# Altium integrated library WarShip_ExtraBoard.IntLib: 22 symbols
Pins are listed as number, name and electrical type; pins without a type are passive.

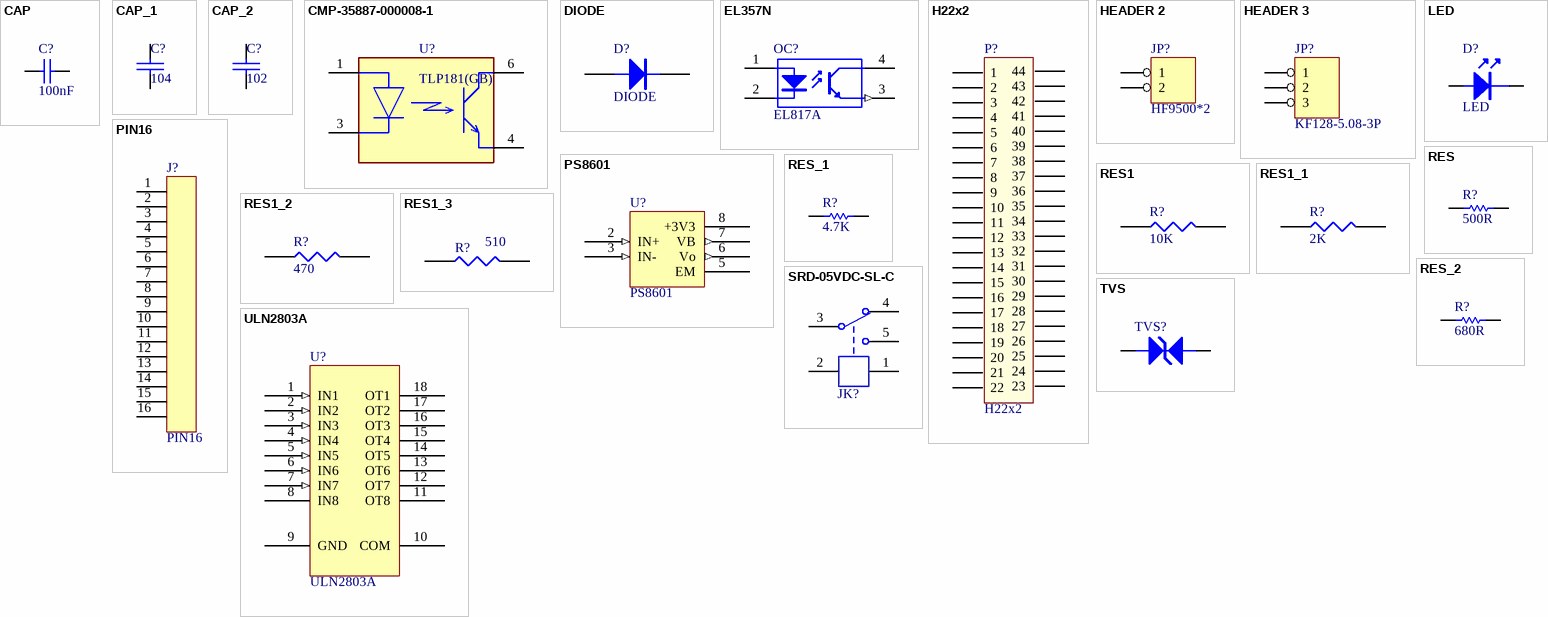
[diagram p0: symbols CAP to ULN2803A]

## CAP
designator C?, comment 100nF
Capacitor; Value: 104; Published: 8-Jun-2000; LatestRevisionDate: 17-Jul-2002; LatestRevisionNote: Re-released for DXP Platform.; PackageReference: RAD-0.3; Publisher: Altium Limited
footprint 0603C
pins: 1, 2

## CAP_1
designator C?, comment 104
Capacitor
footprint 0603
pins: 1, 2

## CAP_2
designator C?, comment 102
Capacitor
footprint 0603
pins: 1, 2

## CMP-35887-000008-1
designator U?, comment TLP181(GB)
OPTOCOUPLER TRANS 3.75KVRMS 6SO; Manufacturer: Toshiba; Collector Emitter Voltage: 80V; Min Current Transfer Ratio: 100%; Max Junction Temp: +125°C; Power Dissipation: 200mW; Max Current Transfer Ratio: 600%; Max Supply Voltage: 48V; Forward Voltage: 1.15V; Turn On Delay Time: 3us; Isolation Voltage: 3750Vrms; Reverse Voltage: 5V; Forward Current: 10mA; Emiiter Collector Voltage: 7V; Standoff Height: 0.1mm; Footprint Url: https://toshiba.semicon-storage.com/eu/design-support/package/detail.4pin%20MFSOP6.html; Device Class L3: unset; ComponentLink2Description: Datasheet; Device Class L1: Optoelectronics; Temperature: -55°C to +110°C; Temperature Range High: +110°C; Automotive: No; Octopart: https://octopart.com/tlp181gb-toshiba-8180795; ComponentLink2URL: https://toshiba.semicon-storage.com/info/docget.jsp?did=16749&prodName=TLP181; Category: Trans; Package: 11-4C1; Turn Off Delay Time: 3us; Temperature Range Low: -55°C; Device Class L2: Optocouplers; RoHS: TRUE; Lead Free: Yes; Ipc Land Pattern Name: SOP254P700X260-4; Manufacturer Part Number: TLP181(GB); Height: 2.8mm
footprint FP-11-4C1-MFG
footprint FP-11-4C1-IPC_A
footprint FP-11-4C1-IPC_C
footprint FP-11-4C1-IPC_B
pins: 1 A, 3 C, 4 E, 6 C

## DIODE
designator D?
footprint SOD-123
pins: 1 A, 2 K

## EL357N
designator OC?, comment EL817A
线性光耦
footprint SMD_PC817
pins: 1 A "Anode", 2 K "Cathode", 3 E (out) "Emitter", 4 C "Collector"

## H22x2
designator P?
footprint H2.54-2X22
footprint H2.54-2X22
footprint H2.54-2X22
footprint H2.54-2X22
footprint HDR2.54-F-44P
pins: 1, 2, 3, 4, 5, 6, 7, 8, 9, 10, 11, 12, 13, 14, 15, 16, 17, 18, 19, 20, 21, 22, 23, 24, 25, 26, 27, 28, 29, 30, 31, 32, 33, 34, 35, 36, 37, 38, 39, 40, 41, 42, 43, 44

## HEADER 2
designator JP?, comment HF9500*2
footprint KF128-5.08-2P (螺钉式接线端子，脚距5.08mm)
pins: 1, 2

## HEADER 3
designator JP?, comment KF128-5.08-3P
footprint KF128-5.08-3P (螺钉式接线端子，脚距5.08mm)
pins: 1, 2, 3

## LED
designator D?
LED 发光二极管
footprint LED-0603G
pins: 1 A, 2 K

## PIN16
designator J?
footprint KF128-5.08-16P
pins: 1, 2, 3, 4, 5, 6, 7, 8, 9, 10, 11, 12, 13, 14, 15, 16

## PS8601
designator U?
High speed optocoupler
footprint DIP8_8601
footprint SMD-8
footprint dip-8
pins: 1 NC hidden to NC, 2 IN+ (in), 3 IN- (in), 4 NC hidden to NC, 5 EM (power), 6 Vo (out), 7 VB (out), 8 +3V3 (power)

## RES
designator R?, comment 500R
Resistor; Value: 1K; Published: 8-Jun-2000; Revision: July-2002: Re-released for DXP Platform.; Publisher: Altium Limited
footprint 0805R
pins: 1, 2
2 alternate drawings of the same symbol

## RES1
designator R?, comment 10K
footprint 0603
pins: 1, 2

## RES1_1
designator R?, comment 2K
footprint 0603
pins: 1, 2

## RES1_2
designator R?, comment 470
footprint 0603
pins: 1, 2

## RES1_3
designator R?, comment 510
footprint 0603
pins: 1, 2

## RES_1
designator R?, comment 4.7K
Resistor; Value: 1K; Published: 8-Jun-2000; Revision: July-2002: Re-released for DXP Platform.; Publisher: Altium Limited
footprint 0603R
pins: 1, 2
2 alternate drawings of the same symbol

## RES_2
designator R?, comment 680R
Resistor; Value: 1K; Published: 8-Jun-2000; Revision: July-2002: Re-released for DXP Platform.; Publisher: Altium Limited
footprint 0805R
pins: 1, 2
2 alternate drawings of the same symbol

## SRD-05VDC-SL-C
designator JK?  (value not drawn)
5V一组转换
footprint SRD-C_B (单刀双投)
pins: 1, 2, 3, 4, 5

## TVS
designator TVS?
footprint D4148/0
footprint D4148/1
footprint D4148/2
footprint D4148/3
footprint TVS
pins: 1 A, 2 K

## ULN2803A
designator U?
8 channels Darlington
footprint SOP18 - 300mil
footprint SOP18 - 300mil
pins: 1 IN1 (in), 2 IN2 (in), 3 IN3 (in), 4 IN4 (in), 5 IN5 (in), 6 IN6 (in), 7 IN7 (in), 8 IN8, 9 GND (power), 10 COM (power), 11 OT8, 12 OT7, 13 OT6, 14 OT5, 15 OT4, 16 OT3, 17 OT2, 18 OT1